# Altium integrated library Cypress Clocks & Buffers Clock Distribution.IntLib: 321 symbols (part 3 of 25)
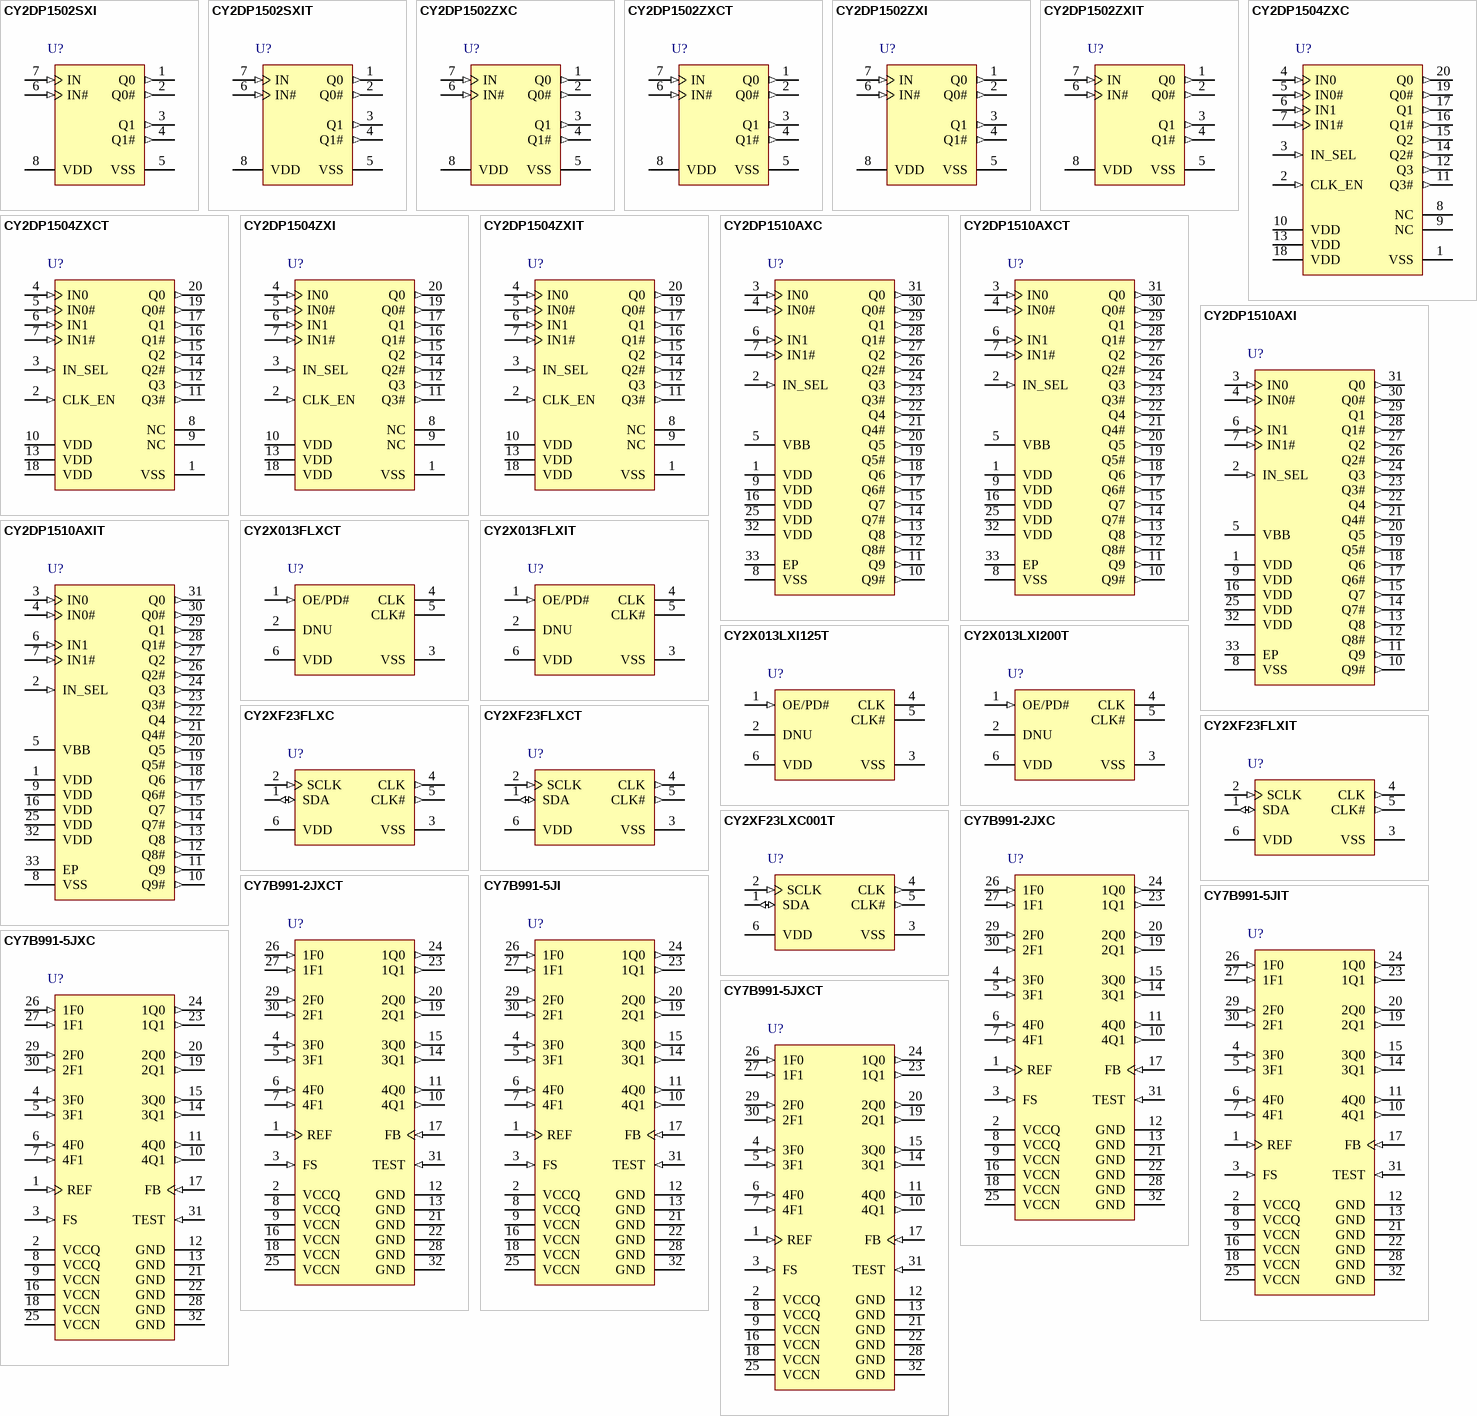
[diagram p18: symbols CY2DP1502SXI to CY7B991-5JXCT]

## CY2DP1510AXI
designator U?
1:10 LVPECL Fanout Buffer with Selectable Clock Input, 2.5 / 3.3 V, 10 Outputs, 1500 MHz Maximum, -40 to 85 degC, 32-Pin TQFP (AX32), Tray; Manufacturer: Cypress; PartNumber: CY2DP1510AXI; Input Frequency Max. (MHz): 1500; Max. Operating Voltage (V): 3.465; Min. Operating Voltage (V): 2.375; No. of Outputs: 10; DatasheetVersion: Rev. *A; PackageVersion: Rev. *A; PackageReference: AX32; PackageDescription: 32-Pin Thin Plastic Quad Flat Pack, Body 7 x 7 mm, Pitch 0.8 mm; Supplier 1: Digi-Key; Supplier Part Number 1: CY2DP1510AXI-ND; Supplier 2: Mouser; Supplier Part Number 2: 727-CY2DP1510AXI; Max. Operating Temp. (degreesC): 85; Min. Operating Temp. (degreesC): -40; Output Frequency Max. (MHz): 1500; Packing: Tray; RoHS: Pb-Free; Mounting Technology: Surface Mount; Code_JEDEC: MS-026; ComponentLink1Description: Manufacturer URL; ComponentLink1URL: http://www.cypress.com/; ComponentLink2Description: Datasheet; ComponentLink2URL: http://www.cypress.com/?docID=28236; ComponentLink3Description: Package Specification; ComponentLink3URL: http://www.cypress.com/?docID=28236
footprint CYP-AX32-3500X3500TP_N (QFP, 32-Leads, Body 7x7mm, Pitch 0.8mm, Thermal Pad 3.5x3.5mm, IPC Medium Density)
footprint CYP-AX32-3500X3500TP_L (QFP, 32-Leads, Body 7x7mm, Pitch 0.8mm, Thermal Pad 3.5x3.5mm, IPC High Density)
footprint CYP-AX32-3500X3500TP_M (QFP, 32-Leads, Body 7x7mm, Pitch 0.8mm, Thermal Pad 3.5x3.5mm, IPC Low Density)
pins: 1 VDD (power) "Power supply", 2 IN_SEL (in) "Input clock select pin. Low-voltage complementary metal oxide semiconductor (LVCMOS)/low-voltage transistor-transistor-logic (LVTTL). When IN_SEL = Low, the IN0/IN0# differential input pair is active When IN_SEL = High, the (See Datasheet)", 3 IN0 (in) "LVPECL input clock. Active when IN_SEL = Low", 4 IN0# (in) "LVPECL complementary input clock. Active when IN_SEL = Low", 5 VBB (power) "LVPECL reference voltage output", 6 IN1 (in) "LVPECL input clock. Active when IN_SEL = High", 7 IN1# (in) "LVPECL complementary input clock. Active when IN_SEL = High", 8 VSS (power) "Ground", 9 VDD (power) "Power supply", 10 Q9# (out) "LVPECL complementary output clocks", 11 Q9 (out) "LVPECL output clocks", 12 Q8# (out) "LVPECL complementary output clocks", 13 Q8 (out) "LVPECL output clocks", 14 Q7# (out) "LVPECL complementary output clocks", 15 Q7 (out) "LVPECL output clocks", 16 VDD (power) "Power supply", 17 Q6# (out) "LVPECL complementary output clocks", 18 Q6 (out) "LVPECL output clocks", 19 Q5# (out) "LVPECL complementary output clocks", 20 Q5 (out) "LVPECL output clocks", 21 Q4# (out) "LVPECL complementary output clocks", 22 Q4 (out) "LVPECL output clocks", 23 Q3# (out) "LVPECL complementary output clocks", 24 Q3 (out) "LVPECL output clocks", 25 VDD (power) "Power supply", 26 Q2# (out) "LVPECL complementary output clocks", 27 Q2 (out) "LVPECL output clocks", 28 Q1# (out) "LVPECL complementary output clocks", 29 Q1 (out) "LVPECL output clocks", 30 Q0# (out) "LVPECL complementary output clocks", 31 Q0 (out) "LVPECL output clocks", 32 VDD (power) "Power supply", 33 EP (power) "Exposed paddle. Connect to ground plane for package heat dissipation. No electrical connection."

## CY2DP1510AXIT
designator U?
1:10 LVPECL Fanout Buffer with Selectable Clock Input, 2.5 / 3.3 V, 10 Outputs, 1500 MHz Maximum, -40 to 85 degC, 32-Pin TQFP (AX32), Tape and Reel; Manufacturer: Cypress; PartNumber: CY2DP1510AXIT; Input Frequency Max. (MHz): 1500; Max. Operating Voltage (V): 3.465; Min. Operating Voltage (V): 2.375; No. of Outputs: 10; DatasheetVersion: Rev. *A; PackageVersion: Rev. *A; PackageReference: AX32; PackageDescription: 32-Pin Thin Plastic Quad Flat Pack, Body 7 x 7 mm, Pitch 0.8 mm; Supplier 1: Digi-Key; Supplier Part Number 1: CY2DP1510AXIT-ND; Supplier 2: Mouser; Supplier Part Number 2: 727-CY2DP1510AXIT; Max. Operating Temp. (degreesC): 85; Min. Operating Temp. (degreesC): -40; Output Frequency Max. (MHz): 1500; Packing: Tape and Reel; RoHS: Pb-Free; Mounting Technology: Surface Mount; Code_JEDEC: MS-026; ComponentLink1Description: Manufacturer URL; ComponentLink1URL: http://www.cypress.com/; ComponentLink2Description: Datasheet; ComponentLink2URL: http://www.cypress.com/?docID=28236; ComponentLink3Description: Package Specification; ComponentLink3URL: http://www.cypress.com/?docID=28236
footprint CYP-AX32-3500X3500TP_N (QFP, 32-Leads, Body 7x7mm, Pitch 0.8mm, Thermal Pad 3.5x3.5mm, IPC Medium Density)
footprint CYP-AX32-3500X3500TP_L (QFP, 32-Leads, Body 7x7mm, Pitch 0.8mm, Thermal Pad 3.5x3.5mm, IPC High Density)
footprint CYP-AX32-3500X3500TP_M (QFP, 32-Leads, Body 7x7mm, Pitch 0.8mm, Thermal Pad 3.5x3.5mm, IPC Low Density)
pins: 1 VDD (power) "Power supply", 2 IN_SEL (in) "Input clock select pin. Low-voltage complementary metal oxide semiconductor (LVCMOS)/low-voltage transistor-transistor-logic (LVTTL). When IN_SEL = Low, the IN0/IN0# differential input pair is active When IN_SEL = High, the (See Datasheet)", 3 IN0 (in) "LVPECL input clock. Active when IN_SEL = Low", 4 IN0# (in) "LVPECL complementary input clock. Active when IN_SEL = Low", 5 VBB (power) "LVPECL reference voltage output", 6 IN1 (in) "LVPECL input clock. Active when IN_SEL = High", 7 IN1# (in) "LVPECL complementary input clock. Active when IN_SEL = High", 8 VSS (power) "Ground", 9 VDD (power) "Power supply", 10 Q9# (out) "LVPECL complementary output clocks", 11 Q9 (out) "LVPECL output clocks", 12 Q8# (out) "LVPECL complementary output clocks", 13 Q8 (out) "LVPECL output clocks", 14 Q7# (out) "LVPECL complementary output clocks", 15 Q7 (out) "LVPECL output clocks", 16 VDD (power) "Power supply", 17 Q6# (out) "LVPECL complementary output clocks", 18 Q6 (out) "LVPECL output clocks", 19 Q5# (out) "LVPECL complementary output clocks", 20 Q5 (out) "LVPECL output clocks", 21 Q4# (out) "LVPECL complementary output clocks", 22 Q4 (out) "LVPECL output clocks", 23 Q3# (out) "LVPECL complementary output clocks", 24 Q3 (out) "LVPECL output clocks", 25 VDD (power) "Power supply", 26 Q2# (out) "LVPECL complementary output clocks", 27 Q2 (out) "LVPECL output clocks", 28 Q1# (out) "LVPECL complementary output clocks", 29 Q1 (out) "LVPECL output clocks", 30 Q0# (out) "LVPECL complementary output clocks", 31 Q0 (out) "LVPECL output clocks", 32 VDD (power) "Power supply", 33 EP (power) "Exposed paddle. Connect to ground plane for package heat dissipation. No electrical connection."

## CY2X013FLXCT
designator U?
LVDS Crystal Oscillator (XO), 2.5 / 3.3 V, 1 Output, 50 to 690 MHz, 0 to 70 degC, 6-Pin LCC (LX6), Tape and Reel; Manufacturer: Cypress; PartNumber: CY2X013FLXCT; Max. Operating Voltage (V): 3.6; Min. Operating Voltage (V): 2.375; No. of Outputs: 1; Output Frequency Max. (MHz): 690; Output Frequency Min. (MHz): 50; DatasheetVersion: Rev. *I; PackageVersion: Rev. *A, 11/2009; PackageReference: LX6; PackageDescription: 6-Pin Ceramic LCC, Body 5 x 3.2 mm, Pitch 1.27 mm; Supplier 1: Digi-Key; Supplier Part Number 1: CY2X013FLXCT-ND; Supplier 2: Mouser; Supplier Part Number 2: 727-CY2X013FLXCT; Max. Operating Temp. (degreesC): 70; Min. Operating Temp. (degreesC): 0; Packing: Tape and Reel; RoHS: Pb-Free; Mounting Technology: Surface Mount; ComponentLink1Description: Manufacturer URL; ComponentLink1URL: http://www.cypress.com/; ComponentLink2Description: Datasheet; ComponentLink2URL: http://www.cypress.com/?docID=49096; ComponentLink3Description: Package Specification; ComponentLink3URL: http://www.cypress.com/?docID=27152
footprint CYP-LX6_V (LCC, 6-Leads, Body 5x3.2mm, Pitch 1.27mm)
pins: 1 OE/PD# (in) "Output enable pin: Active HIGH. If OE = 1, CLK is enabled. Power down pin: Active LOW. If PD# = 0, Power-down is enabled. The functionality of this pin is programmable.", 2 DNU "Do not use: DNU pins are electrically connected, but perform no function", 3 VSS (power) "Ground", 4 CLK (hiz) "Differential output clock", 5 CLK# (hiz) "Differential output clock", 6 VDD (power) "Supply voltage: 2.5 V or 3.3 V"

## CY2X013FLXIT
designator U?
LVDS Crystal Oscillator (XO), 2.5 / 3.3 V, 1 Output, 50 to 690 MHz, -40 to 85 degC, 6-Pin LCC (LX6), Tape and Reel; Manufacturer: Cypress; PartNumber: CY2X013FLXIT; Max. Operating Voltage (V): 3.6; Min. Operating Voltage (V): 2.375; No. of Outputs: 1; Output Frequency Max. (MHz): 690; Output Frequency Min. (MHz): 50; DatasheetVersion: Rev. *I; PackageVersion: Rev. *A, 11/2009; PackageReference: LX6; PackageDescription: 6-Pin Ceramic LCC, Body 5 x 3.2 mm, Pitch 1.27 mm; Supplier 1: Digi-Key; Supplier Part Number 1: CY2X013FLXIT-ND; Supplier 2: Mouser; Supplier Part Number 2: 727-2X013FLXIT; Max. Operating Temp. (degreesC): 85; Min. Operating Temp. (degreesC): -40; Packing: Tape and Reel; RoHS: Pb-Free; Mounting Technology: Surface Mount; ComponentLink1Description: Manufacturer URL; ComponentLink1URL: http://www.cypress.com/; ComponentLink2Description: Datasheet; ComponentLink2URL: http://www.cypress.com/?docID=49096; ComponentLink3Description: Package Specification; ComponentLink3URL: http://www.cypress.com/?docID=27152
footprint CYP-LX6_V (LCC, 6-Leads, Body 5x3.2mm, Pitch 1.27mm)
pins: 1 OE/PD# (in) "Output enable pin: Active HIGH. If OE = 1, CLK is enabled. Power down pin: Active LOW. If PD# = 0, Power-down is enabled. The functionality of this pin is programmable.", 2 DNU "Do not use: DNU pins are electrically connected, but perform no function", 3 VSS (power) "Ground", 4 CLK (hiz) "Differential output clock", 5 CLK# (hiz) "Differential output clock", 6 VDD (power) "Supply voltage: 2.5 V or 3.3 V"

## CY2X013LXI125T
designator U?
LVDS Crystal Oscillator (XO), 2.5 / 3.3 V, 1 Output, 125 MHz, -40 to 85 degC, 6-Pin LCC (LX6), Tape and Reel; Manufacturer: Cypress; PartNumber: CY2X013LXI125T; Max. Operating Voltage (V): 3.6; Min. Operating Voltage (V): 2.375; No. of Outputs: 1; Output Frequency Max. (MHz): 125; DatasheetVersion: Rev. *I; PackageVersion: Rev. *A, 11/2009; PackageReference: LX6; PackageDescription: 6-Pin Ceramic LCC, Body 5 x 3.2 mm, Pitch 1.27 mm; Supplier 1: Digi-Key; Supplier Part Number 1: CY2X013LXI125T-ND; Supplier 2: Mouser; Supplier Part Number 2: 727-CY2X013LXI125T; Max. Operating Temp. (degreesC): 85; Min. Operating Temp. (degreesC): -40; Output Frequency Min. (MHz): 125; Packing: Tape and Reel; RoHS: Pb-Free; Mounting Technology: Surface Mount; ComponentLink1Description: Manufacturer URL; ComponentLink1URL: http://www.cypress.com/; ComponentLink2Description: Datasheet; ComponentLink2URL: http://www.cypress.com/?docID=49096; ComponentLink3Description: Package Specification; ComponentLink3URL: http://www.cypress.com/?docID=27152
footprint CYP-LX6_V (LCC, 6-Leads, Body 5x3.2mm, Pitch 1.27mm)
pins: 1 OE/PD# (in) "Output enable pin: Active HIGH. If OE = 1, CLK is enabled. Power down pin: Active LOW. If PD# = 0, Power-down is enabled. The functionality of this pin is programmable.", 2 DNU "Do not use: DNU pins are electrically connected, but perform no function", 3 VSS (power) "Ground", 4 CLK (hiz) "Differential output clock", 5 CLK# (hiz) "Differential output clock", 6 VDD (power) "Supply voltage: 2.5 V or 3.3 V"

## CY2X013LXI200T
designator U?
LVDS Crystal Oscillator (XO), 2.5 / 3.3 V, 1 Output, 200 MHz, -40 to 85 degC, 6-Pin LCC (LX6), Tape and Reel; Manufacturer: Cypress; PartNumber: CY2X013LXI200T; Max. Operating Voltage (V): 3.6; Min. Operating Voltage (V): 2.375; No. of Outputs: 1; Output Frequency Max. (MHz): 200; DatasheetVersion: Rev. *I; PackageVersion: Rev. *A, 11/2009; PackageReference: LX6; PackageDescription: 6-Pin Ceramic LCC, Body 5 x 3.2 mm, Pitch 1.27 mm; Supplier 1: Digi-Key; Supplier Part Number 1: CY2X013LXI200T-ND; Supplier 2: Mouser; Supplier Part Number 2: 727-CY2X013LXI200T; Max. Operating Temp. (degreesC): 85; Min. Operating Temp. (degreesC): -40; Output Frequency Min. (MHz): 200; Packing: Tape and Reel; RoHS: Pb-Free; Mounting Technology: Surface Mount; ComponentLink1Description: Manufacturer URL; ComponentLink1URL: http://www.cypress.com/; ComponentLink2Description: Datasheet; ComponentLink2URL: http://www.cypress.com/?docID=49096; ComponentLink3Description: Package Specification; ComponentLink3URL: http://www.cypress.com/?docID=27152
footprint CYP-LX6_V (LCC, 6-Leads, Body 5x3.2mm, Pitch 1.27mm)
pins: 1 OE/PD# (in) "Output enable pin: Active HIGH. If OE = 1, CLK is enabled. Power down pin: Active LOW. If PD# = 0, Power-down is enabled. The functionality of this pin is programmable.", 2 DNU "Do not use: DNU pins are electrically connected, but perform no function", 3 VSS (power) "Ground", 4 CLK (hiz) "Differential output clock", 5 CLK# (hiz) "Differential output clock", 6 VDD (power) "Supply voltage: 2.5 V or 3.3 V"

## CY2XF23FLXC
designator U?
High Performance LVDS Oscillator with Frequency Margining - I2C Control, 2.5 / 3.3 V, 1 Output, 50 to 690 MHz, 0 to 70 degC, 6-Pin LCC (LX6), Tray; Manufacturer: Cypress; PartNumber: CY2XF23FLXC; Max. Operating Voltage (V): 3.465; Min. Operating Voltage (V): 2.375; No. of Outputs: 1; Output Frequency Max. (MHz): 690; Output Frequency Min. (MHz): 50; DatasheetVersion: Rev. *G; PackageVersion: Rev. *A, 11/2009; PackageReference: LX6; PackageDescription: 6-Pin Ceramic LCC, Body 5 x 3.2 mm, Pitch 1.27 mm; Max. Operating Temp. (degreesC): 70; Min. Operating Temp. (degreesC): 0; Packing: Tray; RoHS: Pb-Free; Mounting Technology: Surface Mount; ComponentLink1Description: Manufacturer URL; ComponentLink1URL: http://www.cypress.com/; ComponentLink2Description: Datasheet; ComponentLink2URL: http://www.cypress.com/?docID=41714; ComponentLink3Description: Package Specification; ComponentLink3URL: http://www.cypress.com/?docID=27152
footprint CYP-LX6_V (LCC, 6-Leads, Body 5x3.2mm, Pitch 1.27mm)
pins: 1 SDA (io) "I2C serial data", 2 SCLK (in) "I2C serial clock", 3 VSS (power) "Ground", 4 CLK (out) "Differential output clock", 5 CLK# (out) "Differential output clock", 6 VDD (power) "Supply voltage: 2.5 V or 3.3 V"

## CY2XF23FLXCT
designator U?
High Performance LVDS Oscillator with Frequency Margining - I2C Control, 2.5 / 3.3 V, 1 Output, 50 to 690 MHz, 0 to 70 degC, 6-Pin LCC (LX6), Tape and Reel; Manufacturer: Cypress; PartNumber: CY2XF23FLXCT; Max. Operating Voltage (V): 3.465; Min. Operating Voltage (V): 2.375; No. of Outputs: 1; Output Frequency Max. (MHz): 690; Output Frequency Min. (MHz): 50; DatasheetVersion: Rev. *G; PackageVersion: Rev. *A, 11/2009; PackageReference: LX6; PackageDescription: 6-Pin Ceramic LCC, Body 5 x 3.2 mm, Pitch 1.27 mm; Supplier 1: Digi-Key; Supplier Part Number 1: CY2XF23FLXCT-ND; Supplier 2: Mouser; Supplier Part Number 2: 727-CY2XF23FLXCT; Max. Operating Temp. (degreesC): 70; Min. Operating Temp. (degreesC): 0; Packing: Tape and Reel; RoHS: Pb-Free; Mounting Technology: Surface Mount; ComponentLink1Description: Manufacturer URL; ComponentLink1URL: http://www.cypress.com/; ComponentLink2Description: Datasheet; ComponentLink2URL: http://www.cypress.com/?docID=41714; ComponentLink3Description: Package Specification; ComponentLink3URL: http://www.cypress.com/?docID=27152
footprint CYP-LX6_V (LCC, 6-Leads, Body 5x3.2mm, Pitch 1.27mm)
pins: 1 SDA (io) "I2C serial data", 2 SCLK (in) "I2C serial clock", 3 VSS (power) "Ground", 4 CLK (out) "Differential output clock", 5 CLK# (out) "Differential output clock", 6 VDD (power) "Supply voltage: 2.5 V or 3.3 V"

## CY2XF23FLXIT
designator U?
High Performance LVDS Oscillator with Frequency Margining - I2C Control, 2.5 / 3.3 V, 1 Output, 50 to 690 MHz, -40 to 85 degC, 6-Pin LCC (LX6), Tape and Reel; Manufacturer: Cypress; PartNumber: CY2XF23FLXIT; Max. Operating Voltage (V): 3.465; Min. Operating Voltage (V): 2.375; No. of Outputs: 1; Output Frequency Max. (MHz): 690; Output Frequency Min. (MHz): 50; DatasheetVersion: Rev. *G; PackageVersion: Rev. *A, 11/2009; PackageReference: LX6; PackageDescription: 6-Pin Ceramic LCC, Body 5 x 3.2 mm, Pitch 1.27 mm; Supplier 1: Digi-Key; Supplier Part Number 1: CY2XF23FLXIT-ND; Supplier 2: Mouser; Supplier Part Number 2: 727-2XF23FLXIT; Max. Operating Temp. (degreesC): 85; Min. Operating Temp. (degreesC): -40; Packing: Tape and Reel; RoHS: Pb-Free; Mounting Technology: Surface Mount; ComponentLink1Description: Manufacturer URL; ComponentLink1URL: http://www.cypress.com/; ComponentLink2Description: Datasheet; ComponentLink2URL: http://www.cypress.com/?docID=41714; ComponentLink3Description: Package Specification; ComponentLink3URL: http://www.cypress.com/?docID=27152
footprint CYP-LX6_V (LCC, 6-Leads, Body 5x3.2mm, Pitch 1.27mm)
pins: 1 SDA (io) "I2C serial data", 2 SCLK (in) "I2C serial clock", 3 VSS (power) "Ground", 4 CLK (out) "Differential output clock", 5 CLK# (out) "Differential output clock", 6 VDD (power) "Supply voltage: 2.5 V or 3.3 V"

## CY2XF23LXC001T
designator U?
High Performance LVDS Oscillator with Frequency Margining - I2C Control, 2.5 / 3.3 V, 1 Output, 50 to 690 MHz, 0 to 70 degC, 6-Pin LCC (LX6), Tape and Reel; Manufacturer: Cypress; PartNumber: CY2XF23LXC001T; Max. Operating Voltage (V): 3.465; Min. Operating Voltage (V): 2.375; No. of Outputs: 1; Output Frequency Max. (MHz): 690; Output Frequency Min. (MHz): 50; DatasheetVersion: Rev. *G; PackageVersion: Rev. *A, 11/2009; PackageReference: LX6; PackageDescription: 6-Pin Ceramic LCC, Body 5 x 3.2 mm, Pitch 1.27 mm; Supplier 1: Mouser; Supplier Part Number 1: 727-CY2XF23LXC001T; Max. Operating Temp. (degreesC): 70; Min. Operating Temp. (degreesC): 0; Packing: Tape and Reel; RoHS: Pb-Free; Mounting Technology: Surface Mount; ComponentLink1Description: Manufacturer URL; ComponentLink1URL: http://www.cypress.com/; ComponentLink2Description: Datasheet; ComponentLink2URL: http://www.cypress.com/?docID=41714; ComponentLink3Description: Package Specification; ComponentLink3URL: http://www.cypress.com/?docID=27152
footprint CYP-LX6_V (LCC, 6-Leads, Body 5x3.2mm, Pitch 1.27mm)
pins: 1 SDA (io) "I2C serial data", 2 SCLK (in) "I2C serial clock", 3 VSS (power) "Ground", 4 CLK (out) "Differential output clock", 5 CLK# (out) "Differential output clock", 6 VDD (power) "Supply voltage: 2.5 V or 3.3 V"

## CY7B991-2JXC
designator U?
Programmable Skew Clock Buffer, 5 V, 8 Outputs, 3.75 to 80 MHz, 0 to 70 degC, 32-Pin PLCC (JX32), Tube; Manufacturer: Cypress; PartNumber: CY7B991-2JXC; Input Frequency Max. (MHz): 80; Input Frequency Min. (MHz): 3.75; Max. Operating Voltage (V): 5.5; Min. Operating Voltage (V): 4.5; No. of Outputs: 8; DatasheetVersion: Rev. *K; PackageVersion: Rev. *D, 07/2011; PackageReference: JX32; PackageDescription: 32-Pin Plastic Leaded Chip Carrier, Body 13.97 x 11.43 mm, Pitch 1.27 mm; Supplier 1: Digi-Key; Supplier Part Number 1: 428-2241-5-ND; Supplier 2: Mouser; Supplier Part Number 2: 727-CY7B991-2JXC; Max. Operating Temp. (degreesC): 70; Min. Operating Temp. (degreesC): 0; Output Frequency Max. (MHz): 80; Output Frequency Min. (MHz): 3.75; Packing: Tube; RoHS: Pb-Free; Mounting Technology: Surface Mount; ComponentLink1Description: Manufacturer URL; ComponentLink1URL: http://www.cypress.com/; ComponentLink2Description: Datasheet; ComponentLink2URL: http://www.cypress.com/?docID=48627; ComponentLink3Description: Package Specification; ComponentLink3URL: http://www.cypress.com/?docID=39130
footprint CYP-JX32_N (PLCC, 32-Leads, Body 14.05x11.51mm, Pitch 1.27mm, IPC Medium Density)
footprint CYP-JX32_L (PLCC, 32-Leads, Body 14.05x11.51mm, Pitch 1.27mm, IPC High Density)
footprint CYP-JX32_M (PLCC, 32-Leads, Body 14.05x11.51mm, Pitch 1.27mm, IPC Low Density)
pins: 1 REF (in) "Reference frequency input. This input supplies the frequency and timing against which all functional variations are measured.", 2 VCCQ (power) "Power supply for internal circuitry.", 3 FS (in) "Three level frequency range select. See Table 1.", 4 3F0 (in) "Three level function select inputs for output pair 3 (3Q0, 3Q1). See Table 2.", 5 3F1 (in) "Three level function select inputs for output pair 3 (3Q0, 3Q1). See Table 2.", 6 4F0 (in) "Three level function select inputs for output pair 4 (4Q0, 4Q1). See Table 2.", 7 4F1 (in) "Three level function select inputs for output pair 4 (4Q0, 4Q1). See Table 2.", 8 VCCQ (power) "Power supply for internal circuitry.", 9 VCCN (power) "Power supply for output drivers.", 10 4Q1 (out) "Output pair 4. See Table 2.", 11 4Q0 (out) "Output pair 4. See Table 2.", 12 GND (power) "Ground.", 13 GND (power) "Ground.", 14 3Q1 (out) "Output pair 3. See Table 2.", 15 3Q0 (out) "Output pair 3. See Table 2.", 16 VCCN (power) "Power supply for output drivers.", 17 FB (in) "PLL feedback input (typically connected to one of the eight outputs).", 18 VCCN (power) "Power supply for output drivers.", 19 2Q1 (out) "Output pair 2. See Table 2.", 20 2Q0 (out) "Output pair 2. See Table 2.", 21 GND (power) "Ground.", 22 GND (power) "Ground.", 23 1Q1 (out) "Output pair 1. See Table 2.", 24 1Q0 (out) "Output pair 1. See Table 2.", 25 VCCN (power) "Power supply for output drivers.", 26 1F0 (in) "Three level function select inputs for output pair 1 (1Q0, 1Q1). See Table 2.", 27 1F1 (in) "Three level function select inputs for output pair 1 (1Q0, 1Q1). See Table 2.", 28 GND (power) "Ground.", 29 2F0 (in) "Three level function select inputs for output pair 2 (2Q0, 2Q1). See Table 2.", 30 2F1 (in) "Three level function select inputs for output pair 2 (2Q0, 2Q1). See Table 2.", 31 TEST (in) "Three level select. See Test Mode on page 5 under the Block Diagram Description on page 4.", 32 GND (power) "Ground."

## CY7B991-2JXCT
designator U?
Programmable Skew Clock Buffer, 5 V, 8 Outputs, 3.75 to 80 MHz, 0 to 70 degC, 32-Pin PLCC (JX32), Tape and Reel; Manufacturer: Cypress; PartNumber: CY7B991-2JXCT; Input Frequency Max. (MHz): 80; Input Frequency Min. (MHz): 3.75; Max. Operating Voltage (V): 5.5; Min. Operating Voltage (V): 4.5; No. of Outputs: 8; DatasheetVersion: Rev. *K; PackageVersion: Rev. *D, 07/2011; PackageReference: JX32; PackageDescription: 32-Pin Plastic Leaded Chip Carrier, Body 13.97 x 11.43 mm, Pitch 1.27 mm; Supplier 1: Digi-Key; Supplier Part Number 1: CY7B991-2JXCT-ND; Supplier 2: Mouser; Supplier Part Number 2: 727-CY7B9912JXCT; Max. Operating Temp. (degreesC): 70; Min. Operating Temp. (degreesC): 0; Output Frequency Max. (MHz): 80; Output Frequency Min. (MHz): 3.75; Packing: Tape and Reel; RoHS: Pb-Free; Mounting Technology: Surface Mount; ComponentLink1Description: Manufacturer URL; ComponentLink1URL: http://www.cypress.com/; ComponentLink2Description: Datasheet; ComponentLink2URL: http://www.cypress.com/?docID=48627; ComponentLink3Description: Package Specification; ComponentLink3URL: http://www.cypress.com/?docID=39130
footprint CYP-JX32_N (PLCC, 32-Leads, Body 14.05x11.51mm, Pitch 1.27mm, IPC Medium Density)
footprint CYP-JX32_L (PLCC, 32-Leads, Body 14.05x11.51mm, Pitch 1.27mm, IPC High Density)
footprint CYP-JX32_M (PLCC, 32-Leads, Body 14.05x11.51mm, Pitch 1.27mm, IPC Low Density)
pins: 1 REF (in) "Reference frequency input. This input supplies the frequency and timing against which all functional variations are measured.", 2 VCCQ (power) "Power supply for internal circuitry.", 3 FS (in) "Three level frequency range select. See Table 1.", 4 3F0 (in) "Three level function select inputs for output pair 3 (3Q0, 3Q1). See Table 2.", 5 3F1 (in) "Three level function select inputs for output pair 3 (3Q0, 3Q1). See Table 2.", 6 4F0 (in) "Three level function select inputs for output pair 4 (4Q0, 4Q1). See Table 2.", 7 4F1 (in) "Three level function select inputs for output pair 4 (4Q0, 4Q1). See Table 2.", 8 VCCQ (power) "Power supply for internal circuitry.", 9 VCCN (power) "Power supply for output drivers.", 10 4Q1 (out) "Output pair 4. See Table 2.", 11 4Q0 (out) "Output pair 4. See Table 2.", 12 GND (power) "Ground.", 13 GND (power) "Ground.", 14 3Q1 (out) "Output pair 3. See Table 2.", 15 3Q0 (out) "Output pair 3. See Table 2.", 16 VCCN (power) "Power supply for output drivers.", 17 FB (in) "PLL feedback input (typically connected to one of the eight outputs).", 18 VCCN (power) "Power supply for output drivers.", 19 2Q1 (out) "Output pair 2. See Table 2.", 20 2Q0 (out) "Output pair 2. See Table 2.", 21 GND (power) "Ground.", 22 GND (power) "Ground.", 23 1Q1 (out) "Output pair 1. See Table 2.", 24 1Q0 (out) "Output pair 1. See Table 2.", 25 VCCN (power) "Power supply for output drivers.", 26 1F0 (in) "Three level function select inputs for output pair 1 (1Q0, 1Q1). See Table 2.", 27 1F1 (in) "Three level function select inputs for output pair 1 (1Q0, 1Q1). See Table 2.", 28 GND (power) "Ground.", 29 2F0 (in) "Three level function select inputs for output pair 2 (2Q0, 2Q1). See Table 2.", 30 2F1 (in) "Three level function select inputs for output pair 2 (2Q0, 2Q1). See Table 2.", 31 TEST (in) "Three level select. See Test Mode on page 5 under the Block Diagram Description on page 4.", 32 GND (power) "Ground."

## CY7B991-5JI
designator U?
Programmable Skew Clock Buffer, 5 V, 8 Outputs, 3.75 to 80 MHz, -40 to 85 degC, 32-Pin PLCC (JX32), Tube; Manufacturer: Cypress; PartNumber: CY7B991-5JI; Input Frequency Max. (MHz): 80; Input Frequency Min. (MHz): 3.75; Max. Operating Voltage (V): 5.5; Min. Operating Voltage (V): 4.5; No. of Outputs: 8; DatasheetVersion: Rev. *K; PackageVersion: Rev. *D, 07/2011; PackageReference: JX32; PackageDescription: 32-Pin Plastic Leaded Chip Carrier, Body 13.97 x 11.43 mm, Pitch 1.27 mm; Supplier 1: Digi-Key; Supplier Part Number 1: CY7B991-5JI-ND; Supplier 2: Mouser; Supplier Part Number 2: 727-CY7B9915JI; Max. Operating Temp. (degreesC): 85; Min. Operating Temp. (degreesC): -40; Output Frequency Max. (MHz): 80; Output Frequency Min. (MHz): 3.75; Packing: Tube; Mounting Technology: Surface Mount; ComponentLink1Description: Manufacturer URL; ComponentLink1URL: http://www.cypress.com/; ComponentLink2Description: Datasheet; ComponentLink2URL: http://www.cypress.com/?docID=48627; ComponentLink3Description: Package Specification; ComponentLink3URL: http://www.cypress.com/?docID=39130
footprint CYP-JX32_N (PLCC, 32-Leads, Body 14.05x11.51mm, Pitch 1.27mm, IPC Medium Density)
footprint CYP-JX32_L (PLCC, 32-Leads, Body 14.05x11.51mm, Pitch 1.27mm, IPC High Density)
footprint CYP-JX32_M (PLCC, 32-Leads, Body 14.05x11.51mm, Pitch 1.27mm, IPC Low Density)
pins: 1 REF (in) "Reference frequency input. This input supplies the frequency and timing against which all functional variations are measured.", 2 VCCQ (power) "Power supply for internal circuitry.", 3 FS (in) "Three level frequency range select. See Table 1.", 4 3F0 (in) "Three level function select inputs for output pair 3 (3Q0, 3Q1). See Table 2.", 5 3F1 (in) "Three level function select inputs for output pair 3 (3Q0, 3Q1). See Table 2.", 6 4F0 (in) "Three level function select inputs for output pair 4 (4Q0, 4Q1). See Table 2.", 7 4F1 (in) "Three level function select inputs for output pair 4 (4Q0, 4Q1). See Table 2.", 8 VCCQ (power) "Power supply for internal circuitry.", 9 VCCN (power) "Power supply for output drivers.", 10 4Q1 (out) "Output pair 4. See Table 2.", 11 4Q0 (out) "Output pair 4. See Table 2.", 12 GND (power) "Ground.", 13 GND (power) "Ground.", 14 3Q1 (out) "Output pair 3. See Table 2.", 15 3Q0 (out) "Output pair 3. See Table 2.", 16 VCCN (power) "Power supply for output drivers.", 17 FB (in) "PLL feedback input (typically connected to one of the eight outputs).", 18 VCCN (power) "Power supply for output drivers.", 19 2Q1 (out) "Output pair 2. See Table 2.", 20 2Q0 (out) "Output pair 2. See Table 2.", 21 GND (power) "Ground.", 22 GND (power) "Ground.", 23 1Q1 (out) "Output pair 1. See Table 2.", 24 1Q0 (out) "Output pair 1. See Table 2.", 25 VCCN (power) "Power supply for output drivers.", 26 1F0 (in) "Three level function select inputs for output pair 1 (1Q0, 1Q1). See Table 2.", 27 1F1 (in) "Three level function select inputs for output pair 1 (1Q0, 1Q1). See Table 2.", 28 GND (power) "Ground.", 29 2F0 (in) "Three level function select inputs for output pair 2 (2Q0, 2Q1). See Table 2.", 30 2F1 (in) "Three level function select inputs for output pair 2 (2Q0, 2Q1). See Table 2.", 31 TEST (in) "Three level select. See Test Mode on page 5 under the Block Diagram Description on page 4.", 32 GND (power) "Ground."

## CY7B991-5JIT
designator U?
Programmable Skew Clock Buffer, 5 V, 8 Outputs, 3.75 to 80 MHz, -40 to 85 degC, 32-Pin PLCC (JX32), Tape and Reel; Manufacturer: Cypress; PartNumber: CY7B991-5JIT; Input Frequency Max. (MHz): 80; Input Frequency Min. (MHz): 3.75; Max. Operating Voltage (V): 5.5; Min. Operating Voltage (V): 4.5; No. of Outputs: 8; DatasheetVersion: Rev. *K; PackageVersion: Rev. *D, 07/2011; PackageReference: JX32; PackageDescription: 32-Pin Plastic Leaded Chip Carrier, Body 13.97 x 11.43 mm, Pitch 1.27 mm; Supplier 1: Mouser; Supplier Part Number 1: N/A; Max. Operating Temp. (degreesC): 85; Min. Operating Temp. (degreesC): -40; Output Frequency Max. (MHz): 80; Output Frequency Min. (MHz): 3.75; Packing: Tape and Reel; Mounting Technology: Surface Mount; ComponentLink1Description: Manufacturer URL; ComponentLink1URL: http://www.cypress.com/; ComponentLink2Description: Datasheet; ComponentLink2URL: http://www.cypress.com/?docID=48627; ComponentLink3Description: Package Specification; ComponentLink3URL: http://www.cypress.com/?docID=39130
footprint CYP-JX32_N (PLCC, 32-Leads, Body 14.05x11.51mm, Pitch 1.27mm, IPC Medium Density)
footprint CYP-JX32_L (PLCC, 32-Leads, Body 14.05x11.51mm, Pitch 1.27mm, IPC High Density)
footprint CYP-JX32_M (PLCC, 32-Leads, Body 14.05x11.51mm, Pitch 1.27mm, IPC Low Density)
pins: 1 REF (in) "Reference frequency input. This input supplies the frequency and timing against which all functional variations are measured.", 2 VCCQ (power) "Power supply for internal circuitry.", 3 FS (in) "Three level frequency range select. See Table 1.", 4 3F0 (in) "Three level function select inputs for output pair 3 (3Q0, 3Q1). See Table 2.", 5 3F1 (in) "Three level function select inputs for output pair 3 (3Q0, 3Q1). See Table 2.", 6 4F0 (in) "Three level function select inputs for output pair 4 (4Q0, 4Q1). See Table 2.", 7 4F1 (in) "Three level function select inputs for output pair 4 (4Q0, 4Q1). See Table 2.", 8 VCCQ (power) "Power supply for internal circuitry.", 9 VCCN (power) "Power supply for output drivers.", 10 4Q1 (out) "Output pair 4. See Table 2.", 11 4Q0 (out) "Output pair 4. See Table 2.", 12 GND (power) "Ground.", 13 GND (power) "Ground.", 14 3Q1 (out) "Output pair 3. See Table 2.", 15 3Q0 (out) "Output pair 3. See Table 2.", 16 VCCN (power) "Power supply for output drivers.", 17 FB (in) "PLL feedback input (typically connected to one of the eight outputs).", 18 VCCN (power) "Power supply for output drivers.", 19 2Q1 (out) "Output pair 2. See Table 2.", 20 2Q0 (out) "Output pair 2. See Table 2.", 21 GND (power) "Ground.", 22 GND (power) "Ground.", 23 1Q1 (out) "Output pair 1. See Table 2.", 24 1Q0 (out) "Output pair 1. See Table 2.", 25 VCCN (power) "Power supply for output drivers.", 26 1F0 (in) "Three level function select inputs for output pair 1 (1Q0, 1Q1). See Table 2.", 27 1F1 (in) "Three level function select inputs for output pair 1 (1Q0, 1Q1). See Table 2.", 28 GND (power) "Ground.", 29 2F0 (in) "Three level function select inputs for output pair 2 (2Q0, 2Q1). See Table 2.", 30 2F1 (in) "Three level function select inputs for output pair 2 (2Q0, 2Q1). See Table 2.", 31 TEST (in) "Three level select. See Test Mode on page 5 under the Block Diagram Description on page 4.", 32 GND (power) "Ground."

## CY7B991-5JXC
designator U?
Programmable Skew Clock Buffer, 5 V, 8 Outputs, 3.75 to 80 MHz, 0 to 70 degC, 32-Pin PLCC (JX32), Tube; Manufacturer: Cypress; PartNumber: CY7B991-5JXC; Input Frequency Max. (MHz): 80; Input Frequency Min. (MHz): 3.75; Max. Operating Voltage (V): 5.5; Min. Operating Voltage (V): 4.5; No. of Outputs: 8; DatasheetVersion: Rev. *K; PackageVersion: Rev. *D, 07/2011; PackageReference: JX32; PackageDescription: 32-Pin Plastic Leaded Chip Carrier, Body 13.97 x 11.43 mm, Pitch 1.27 mm; Supplier 1: Digi-Key; Supplier Part Number 1: 428-2242-5-ND; Supplier 2: Newark; Supplier Part Number 2: 19M2618; Supplier 3: Mouser; Supplier Part Number 3: 727-CY7B991-5JXC; Max. Operating Temp. (degreesC): 70; Min. Operating Temp. (degreesC): 0; Output Frequency Max. (MHz): 80; Output Frequency Min. (MHz): 3.75; Packing: Tube; RoHS: Pb-Free; Mounting Technology: Surface Mount; ComponentLink1Description: Manufacturer URL; ComponentLink1URL: http://www.cypress.com/; ComponentLink2Description: Datasheet; ComponentLink2URL: http://www.cypress.com/?docID=48627; ComponentLink3Description: Package Specification; ComponentLink3URL: http://www.cypress.com/?docID=39130
footprint CYP-JX32_N (PLCC, 32-Leads, Body 14.05x11.51mm, Pitch 1.27mm, IPC Medium Density)
footprint CYP-JX32_L (PLCC, 32-Leads, Body 14.05x11.51mm, Pitch 1.27mm, IPC High Density)
footprint CYP-JX32_M (PLCC, 32-Leads, Body 14.05x11.51mm, Pitch 1.27mm, IPC Low Density)
pins: 1 REF (in) "Reference frequency input. This input supplies the frequency and timing against which all functional variations are measured.", 2 VCCQ (power) "Power supply for internal circuitry.", 3 FS (in) "Three level frequency range select. See Table 1.", 4 3F0 (in) "Three level function select inputs for output pair 3 (3Q0, 3Q1). See Table 2.", 5 3F1 (in) "Three level function select inputs for output pair 3 (3Q0, 3Q1). See Table 2.", 6 4F0 (in) "Three level function select inputs for output pair 4 (4Q0, 4Q1). See Table 2.", 7 4F1 (in) "Three level function select inputs for output pair 4 (4Q0, 4Q1). See Table 2.", 8 VCCQ (power) "Power supply for internal circuitry.", 9 VCCN (power) "Power supply for output drivers.", 10 4Q1 (out) "Output pair 4. See Table 2.", 11 4Q0 (out) "Output pair 4. See Table 2.", 12 GND (power) "Ground.", 13 GND (power) "Ground.", 14 3Q1 (out) "Output pair 3. See Table 2.", 15 3Q0 (out) "Output pair 3. See Table 2.", 16 VCCN (power) "Power supply for output drivers.", 17 FB (in) "PLL feedback input (typically connected to one of the eight outputs).", 18 VCCN (power) "Power supply for output drivers.", 19 2Q1 (out) "Output pair 2. See Table 2.", 20 2Q0 (out) "Output pair 2. See Table 2.", 21 GND (power) "Ground.", 22 GND (power) "Ground.", 23 1Q1 (out) "Output pair 1. See Table 2.", 24 1Q0 (out) "Output pair 1. See Table 2.", 25 VCCN (power) "Power supply for output drivers.", 26 1F0 (in) "Three level function select inputs for output pair 1 (1Q0, 1Q1). See Table 2.", 27 1F1 (in) "Three level function select inputs for output pair 1 (1Q0, 1Q1). See Table 2.", 28 GND (power) "Ground.", 29 2F0 (in) "Three level function select inputs for output pair 2 (2Q0, 2Q1). See Table 2.", 30 2F1 (in) "Three level function select inputs for output pair 2 (2Q0, 2Q1). See Table 2.", 31 TEST (in) "Three level select. See Test Mode on page 5 under the Block Diagram Description on page 4.", 32 GND (power) "Ground."

## CY7B991-5JXCT
designator U?
Programmable Skew Clock Buffer, 5 V, 8 Outputs, 3.75 to 80 MHz, 0 to 70 degC, 32-Pin PLCC (JX32), Tape and Reel; Manufacturer: Cypress; PartNumber: CY7B991-5JXCT; Input Frequency Max. (MHz): 80; Input Frequency Min. (MHz): 3.75; Max. Operating Voltage (V): 5.5; Min. Operating Voltage (V): 4.5; No. of Outputs: 8; DatasheetVersion: Rev. *K; PackageVersion: Rev. *D, 07/2011; PackageReference: JX32; PackageDescription: 32-Pin Plastic Leaded Chip Carrier, Body 13.97 x 11.43 mm, Pitch 1.27 mm; Supplier 1: Digi-Key; Supplier Part Number 1: CY7B991-5JXCT-ND; Supplier 2: Mouser; Supplier Part Number 2: 727-CY7B991-5JXCT; Max. Operating Temp. (degreesC): 70; Min. Operating Temp. (degreesC): 0; Output Frequency Max. (MHz): 80; Output Frequency Min. (MHz): 3.75; Packing: Tape and Reel; RoHS: Pb-Free; Mounting Technology: Surface Mount; ComponentLink1Description: Manufacturer URL; ComponentLink1URL: http://www.cypress.com/; ComponentLink2Description: Datasheet; ComponentLink2URL: http://www.cypress.com/?docID=48627; ComponentLink3Description: Package Specification; ComponentLink3URL: http://www.cypress.com/?docID=39130
footprint CYP-JX32_N (PLCC, 32-Leads, Body 14.05x11.51mm, Pitch 1.27mm, IPC Medium Density)
footprint CYP-JX32_L (PLCC, 32-Leads, Body 14.05x11.51mm, Pitch 1.27mm, IPC High Density)
footprint CYP-JX32_M (PLCC, 32-Leads, Body 14.05x11.51mm, Pitch 1.27mm, IPC Low Density)
pins: 1 REF (in) "Reference frequency input. This input supplies the frequency and timing against which all functional variations are measured.", 2 VCCQ (power) "Power supply for internal circuitry.", 3 FS (in) "Three level frequency range select. See Table 1.", 4 3F0 (in) "Three level function select inputs for output pair 3 (3Q0, 3Q1). See Table 2.", 5 3F1 (in) "Three level function select inputs for output pair 3 (3Q0, 3Q1). See Table 2.", 6 4F0 (in) "Three level function select inputs for output pair 4 (4Q0, 4Q1). See Table 2.", 7 4F1 (in) "Three level function select inputs for output pair 4 (4Q0, 4Q1). See Table 2.", 8 VCCQ (power) "Power supply for internal circuitry.", 9 VCCN (power) "Power supply for output drivers.", 10 4Q1 (out) "Output pair 4. See Table 2.", 11 4Q0 (out) "Output pair 4. See Table 2.", 12 GND (power) "Ground.", 13 GND (power) "Ground.", 14 3Q1 (out) "Output pair 3. See Table 2.", 15 3Q0 (out) "Output pair 3. See Table 2.", 16 VCCN (power) "Power supply for output drivers.", 17 FB (in) "PLL feedback input (typically connected to one of the eight outputs).", 18 VCCN (power) "Power supply for output drivers.", 19 2Q1 (out) "Output pair 2. See Table 2.", 20 2Q0 (out) "Output pair 2. See Table 2.", 21 GND (power) "Ground.", 22 GND (power) "Ground.", 23 1Q1 (out) "Output pair 1. See Table 2.", 24 1Q0 (out) "Output pair 1. See Table 2.", 25 VCCN (power) "Power supply for output drivers.", 26 1F0 (in) "Three level function select inputs for output pair 1 (1Q0, 1Q1). See Table 2.", 27 1F1 (in) "Three level function select inputs for output pair 1 (1Q0, 1Q1). See Table 2.", 28 GND (power) "Ground.", 29 2F0 (in) "Three level function select inputs for output pair 2 (2Q0, 2Q1). See Table 2.", 30 2F1 (in) "Three level function select inputs for output pair 2 (2Q0, 2Q1). See Table 2.", 31 TEST (in) "Three level select. See Test Mode on page 5 under the Block Diagram Description on page 4.", 32 GND (power) "Ground."

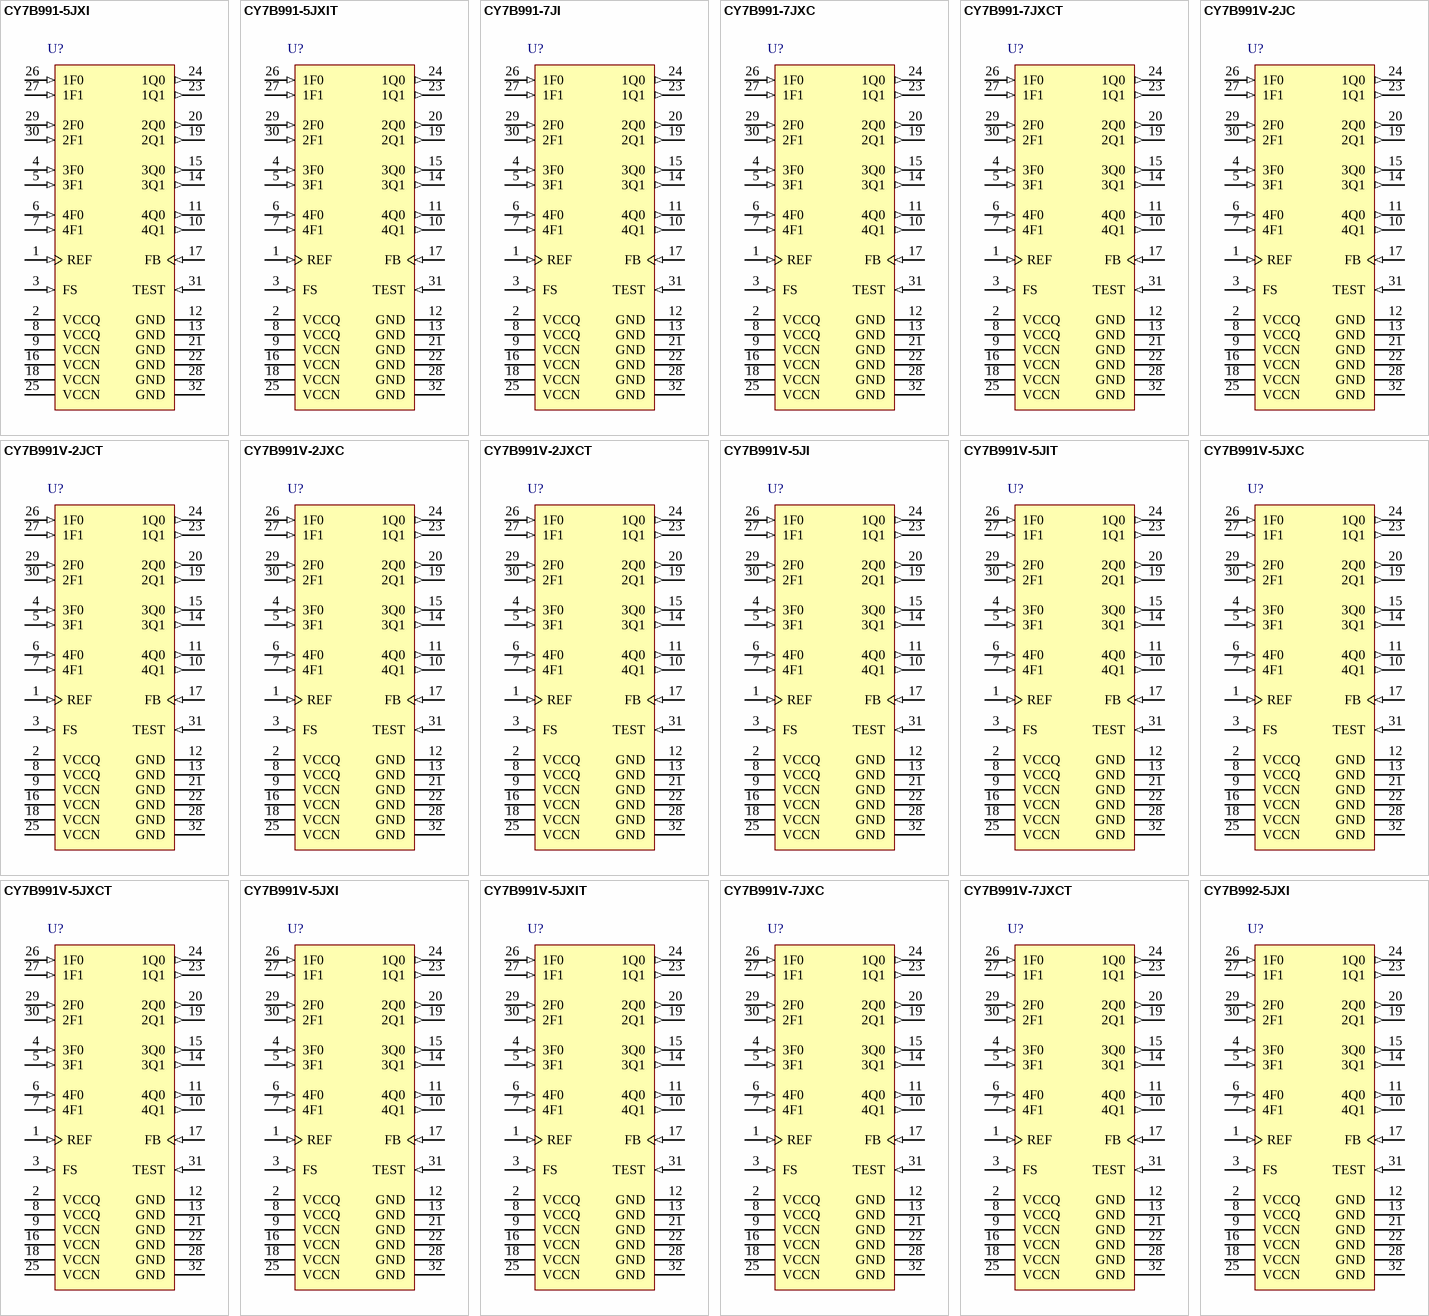
[diagram p2: symbols CY7B991-5JXI to CY7B992-5JXI]

## CY7B991-5JXI
designator U?
Programmable Skew Clock Buffer, 5 V, 8 Outputs, 3.75 to 80 MHz, -40 to 85 degC, 32-Pin PLCC (JX32), Tube; Manufacturer: Cypress; PartNumber: CY7B991-5JXI; Input Frequency Max. (MHz): 80; Input Frequency Min. (MHz): 3.75; Max. Operating Voltage (V): 5.5; Min. Operating Voltage (V): 4.5; No. of Outputs: 8; DatasheetVersion: Rev. *K; PackageVersion: Rev. *D, 07/2011; PackageReference: JX32; PackageDescription: 32-Pin Plastic Leaded Chip Carrier, Body 13.97 x 11.43 mm, Pitch 1.27 mm; Supplier 1: Digi-Key; Supplier Part Number 1: CY7B991-5JXI-ND; Supplier 2: Newark; Supplier Part Number 2: 19M2620; Supplier 3: Mouser; Supplier Part Number 3: 727-CY7B991-5JXI; Max. Operating Temp. (degreesC): 85; Min. Operating Temp. (degreesC): -40; Output Frequency Max. (MHz): 80; Output Frequency Min. (MHz): 3.75; Packing: Tube; RoHS: Pb-Free; Mounting Technology: Surface Mount; ComponentLink1Description: Manufacturer URL; ComponentLink1URL: http://www.cypress.com/; ComponentLink2Description: Datasheet; ComponentLink2URL: http://www.cypress.com/?docID=48627; ComponentLink3Description: Package Specification; ComponentLink3URL: http://www.cypress.com/?docID=39130
footprint CYP-JX32_N (PLCC, 32-Leads, Body 14.05x11.51mm, Pitch 1.27mm, IPC Medium Density)
footprint CYP-JX32_L (PLCC, 32-Leads, Body 14.05x11.51mm, Pitch 1.27mm, IPC High Density)
footprint CYP-JX32_M (PLCC, 32-Leads, Body 14.05x11.51mm, Pitch 1.27mm, IPC Low Density)
pins: 1 REF (in) "Reference frequency input. This input supplies the frequency and timing against which all functional variations are measured.", 2 VCCQ (power) "Power supply for internal circuitry.", 3 FS (in) "Three level frequency range select. See Table 1.", 4 3F0 (in) "Three level function select inputs for output pair 3 (3Q0, 3Q1). See Table 2.", 5 3F1 (in) "Three level function select inputs for output pair 3 (3Q0, 3Q1). See Table 2.", 6 4F0 (in) "Three level function select inputs for output pair 4 (4Q0, 4Q1). See Table 2.", 7 4F1 (in) "Three level function select inputs for output pair 4 (4Q0, 4Q1). See Table 2.", 8 VCCQ (power) "Power supply for internal circuitry.", 9 VCCN (power) "Power supply for output drivers.", 10 4Q1 (out) "Output pair 4. See Table 2.", 11 4Q0 (out) "Output pair 4. See Table 2.", 12 GND (power) "Ground.", 13 GND (power) "Ground.", 14 3Q1 (out) "Output pair 3. See Table 2.", 15 3Q0 (out) "Output pair 3. See Table 2.", 16 VCCN (power) "Power supply for output drivers.", 17 FB (in) "PLL feedback input (typically connected to one of the eight outputs).", 18 VCCN (power) "Power supply for output drivers.", 19 2Q1 (out) "Output pair 2. See Table 2.", 20 2Q0 (out) "Output pair 2. See Table 2.", 21 GND (power) "Ground.", 22 GND (power) "Ground.", 23 1Q1 (out) "Output pair 1. See Table 2.", 24 1Q0 (out) "Output pair 1. See Table 2.", 25 VCCN (power) "Power supply for output drivers.", 26 1F0 (in) "Three level function select inputs for output pair 1 (1Q0, 1Q1). See Table 2.", 27 1F1 (in) "Three level function select inputs for output pair 1 (1Q0, 1Q1). See Table 2.", 28 GND (power) "Ground.", 29 2F0 (in) "Three level function select inputs for output pair 2 (2Q0, 2Q1). See Table 2.", 30 2F1 (in) "Three level function select inputs for output pair 2 (2Q0, 2Q1). See Table 2.", 31 TEST (in) "Three level select. See Test Mode on page 5 under the Block Diagram Description on page 4.", 32 GND (power) "Ground."

## CY7B991-5JXIT
designator U?
Programmable Skew Clock Buffer, 5 V, 8 Outputs, 3.75 to 80 MHz, -40 to 85 degC, 32-Pin PLCC (JX32), Tape and Reel; Manufacturer: Cypress; PartNumber: CY7B991-5JXIT; Input Frequency Max. (MHz): 80; Input Frequency Min. (MHz): 3.75; Max. Operating Voltage (V): 5.5; Min. Operating Voltage (V): 4.5; No. of Outputs: 8; DatasheetVersion: Rev. *K; PackageVersion: Rev. *D, 07/2011; PackageReference: JX32; PackageDescription: 32-Pin Plastic Leaded Chip Carrier, Body 13.97 x 11.43 mm, Pitch 1.27 mm; Supplier 1: Digi-Key; Supplier Part Number 1: CY7B991-5JXIT-ND; Supplier 2: Mouser; Supplier Part Number 2: 727-CY7B9915JXIT; Max. Operating Temp. (degreesC): 85; Min. Operating Temp. (degreesC): -40; Output Frequency Max. (MHz): 80; Output Frequency Min. (MHz): 3.75; Packing: Tape and Reel; RoHS: Pb-Free; Mounting Technology: Surface Mount; ComponentLink1Description: Manufacturer URL; ComponentLink1URL: http://www.cypress.com/; ComponentLink2Description: Datasheet; ComponentLink2URL: http://www.cypress.com/?docID=48627; ComponentLink3Description: Package Specification; ComponentLink3URL: http://www.cypress.com/?docID=39130
footprint CYP-JX32_N (PLCC, 32-Leads, Body 14.05x11.51mm, Pitch 1.27mm, IPC Medium Density)
footprint CYP-JX32_L (PLCC, 32-Leads, Body 14.05x11.51mm, Pitch 1.27mm, IPC High Density)
footprint CYP-JX32_M (PLCC, 32-Leads, Body 14.05x11.51mm, Pitch 1.27mm, IPC Low Density)
pins: 1 REF (in) "Reference frequency input. This input supplies the frequency and timing against which all functional variations are measured.", 2 VCCQ (power) "Power supply for internal circuitry.", 3 FS (in) "Three level frequency range select. See Table 1.", 4 3F0 (in) "Three level function select inputs for output pair 3 (3Q0, 3Q1). See Table 2.", 5 3F1 (in) "Three level function select inputs for output pair 3 (3Q0, 3Q1). See Table 2.", 6 4F0 (in) "Three level function select inputs for output pair 4 (4Q0, 4Q1). See Table 2.", 7 4F1 (in) "Three level function select inputs for output pair 4 (4Q0, 4Q1). See Table 2.", 8 VCCQ (power) "Power supply for internal circuitry.", 9 VCCN (power) "Power supply for output drivers.", 10 4Q1 (out) "Output pair 4. See Table 2.", 11 4Q0 (out) "Output pair 4. See Table 2.", 12 GND (power) "Ground.", 13 GND (power) "Ground.", 14 3Q1 (out) "Output pair 3. See Table 2.", 15 3Q0 (out) "Output pair 3. See Table 2.", 16 VCCN (power) "Power supply for output drivers.", 17 FB (in) "PLL feedback input (typically connected to one of the eight outputs).", 18 VCCN (power) "Power supply for output drivers.", 19 2Q1 (out) "Output pair 2. See Table 2.", 20 2Q0 (out) "Output pair 2. See Table 2.", 21 GND (power) "Ground.", 22 GND (power) "Ground.", 23 1Q1 (out) "Output pair 1. See Table 2.", 24 1Q0 (out) "Output pair 1. See Table 2.", 25 VCCN (power) "Power supply for output drivers.", 26 1F0 (in) "Three level function select inputs for output pair 1 (1Q0, 1Q1). See Table 2.", 27 1F1 (in) "Three level function select inputs for output pair 1 (1Q0, 1Q1). See Table 2.", 28 GND (power) "Ground.", 29 2F0 (in) "Three level function select inputs for output pair 2 (2Q0, 2Q1). See Table 2.", 30 2F1 (in) "Three level function select inputs for output pair 2 (2Q0, 2Q1). See Table 2.", 31 TEST (in) "Three level select. See Test Mode on page 5 under the Block Diagram Description on page 4.", 32 GND (power) "Ground."

## CY7B991-7JI
designator U?
Programmable Skew Clock Buffer, 5 V, 8 Outputs, 3.75 to 80 MHz, -40 to 85 degC, 32-Pin PLCC (JX32), Tube; Manufacturer: Cypress; PartNumber: CY7B991-7JI; Input Frequency Max. (MHz): 80; Input Frequency Min. (MHz): 3.75; Max. Operating Voltage (V): 5.5; Min. Operating Voltage (V): 4.5; No. of Outputs: 8; DatasheetVersion: Rev. *K; PackageVersion: Rev. *D, 07/2011; PackageReference: JX32; PackageDescription: 32-Pin Plastic Leaded Chip Carrier, Body 13.97 x 11.43 mm, Pitch 1.27 mm; Supplier 1: Digi-Key; Supplier Part Number 1: CY7B991-7JI-ND; Supplier 2: Mouser; Supplier Part Number 2: N/A; Max. Operating Temp. (degreesC): 85; Min. Operating Temp. (degreesC): -40; Output Frequency Max. (MHz): 80; Output Frequency Min. (MHz): 3.75; Packing: Tube; Mounting Technology: Surface Mount; ComponentLink1Description: Manufacturer URL; ComponentLink1URL: http://www.cypress.com/; ComponentLink2Description: Datasheet; ComponentLink2URL: http://www.cypress.com/?docID=48627; ComponentLink3Description: Package Specification; ComponentLink3URL: http://www.cypress.com/?docID=39130
footprint CYP-JX32_N (PLCC, 32-Leads, Body 14.05x11.51mm, Pitch 1.27mm, IPC Medium Density)
footprint CYP-JX32_L (PLCC, 32-Leads, Body 14.05x11.51mm, Pitch 1.27mm, IPC High Density)
footprint CYP-JX32_M (PLCC, 32-Leads, Body 14.05x11.51mm, Pitch 1.27mm, IPC Low Density)
pins: 1 REF (in) "Reference frequency input. This input supplies the frequency and timing against which all functional variations are measured.", 2 VCCQ (power) "Power supply for internal circuitry.", 3 FS (in) "Three level frequency range select. See Table 1.", 4 3F0 (in) "Three level function select inputs for output pair 3 (3Q0, 3Q1). See Table 2.", 5 3F1 (in) "Three level function select inputs for output pair 3 (3Q0, 3Q1). See Table 2.", 6 4F0 (in) "Three level function select inputs for output pair 4 (4Q0, 4Q1). See Table 2.", 7 4F1 (in) "Three level function select inputs for output pair 4 (4Q0, 4Q1). See Table 2.", 8 VCCQ (power) "Power supply for internal circuitry.", 9 VCCN (power) "Power supply for output drivers.", 10 4Q1 (out) "Output pair 4. See Table 2.", 11 4Q0 (out) "Output pair 4. See Table 2.", 12 GND (power) "Ground.", 13 GND (power) "Ground.", 14 3Q1 (out) "Output pair 3. See Table 2.", 15 3Q0 (out) "Output pair 3. See Table 2.", 16 VCCN (power) "Power supply for output drivers.", 17 FB (in) "PLL feedback input (typically connected to one of the eight outputs).", 18 VCCN (power) "Power supply for output drivers.", 19 2Q1 (out) "Output pair 2. See Table 2.", 20 2Q0 (out) "Output pair 2. See Table 2.", 21 GND (power) "Ground.", 22 GND (power) "Ground.", 23 1Q1 (out) "Output pair 1. See Table 2.", 24 1Q0 (out) "Output pair 1. See Table 2.", 25 VCCN (power) "Power supply for output drivers.", 26 1F0 (in) "Three level function select inputs for output pair 1 (1Q0, 1Q1). See Table 2.", 27 1F1 (in) "Three level function select inputs for output pair 1 (1Q0, 1Q1). See Table 2.", 28 GND (power) "Ground.", 29 2F0 (in) "Three level function select inputs for output pair 2 (2Q0, 2Q1). See Table 2.", 30 2F1 (in) "Three level function select inputs for output pair 2 (2Q0, 2Q1). See Table 2.", 31 TEST (in) "Three level select. See Test Mode on page 5 under the Block Diagram Description on page 4.", 32 GND (power) "Ground."